# Altium footprint library OMD.PcbLib: 62 footprints (part 4 of 4)
Each footprint in its own frame and in the unit in brackets; x right, y up, seen from the top. Pads: shape width x height; smd on the part's side, far side on the other; paste and mask are expansions set on the pad; w line width, h text height; cw(c..) or ccw(c..) is an arc to the next point about the centre after c.
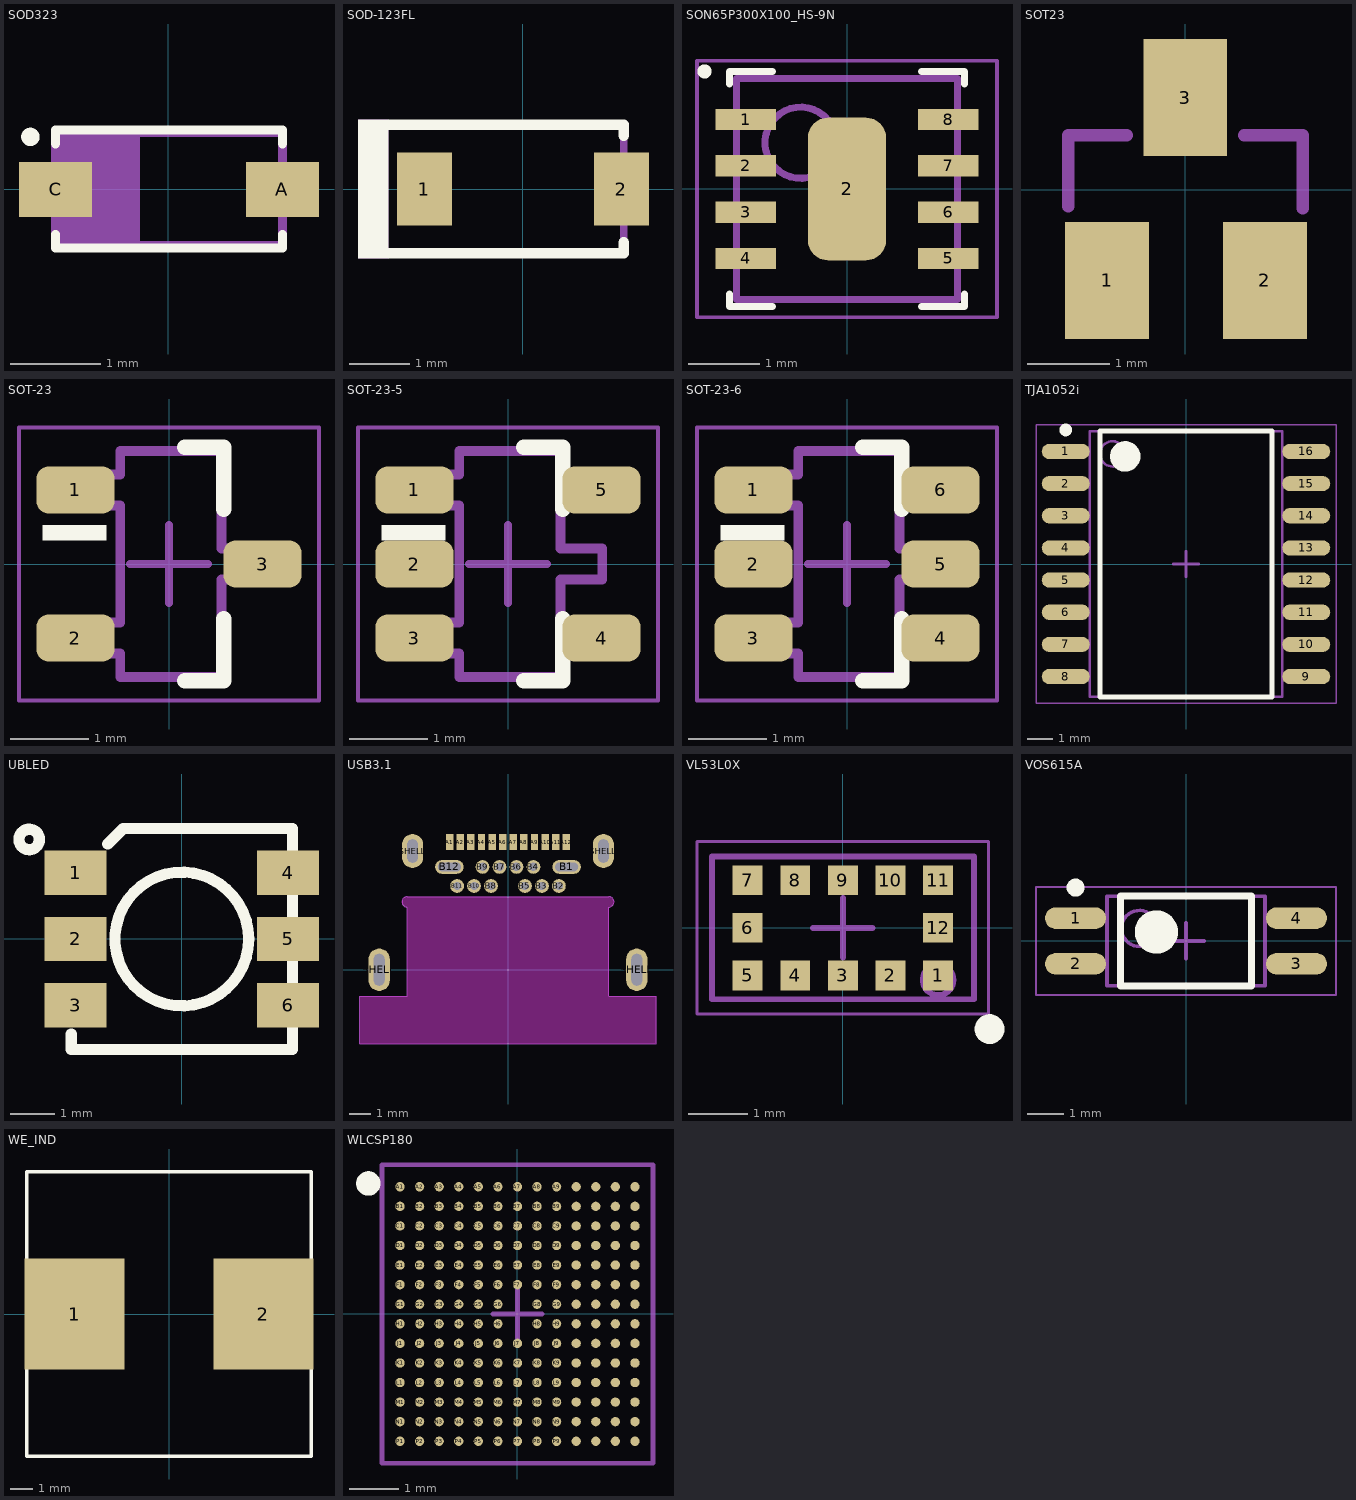
[diagram p3: the footprints below, top view; thin cyan lines are the x and y axes]

## SOD323 [mil] "SOD323"
pads (2):
  rect 32x24 smd: A(50,0) C(-49.21,0)
Top Overlay:
  circle w4: c-60.24,23 r2
  lines w4: -49.21,-19.68 -49.21,-25.59 50,-25.59 50,-19.68 ; -49.21,20 -49.21,26 50,26 50,20
Mechanical 16:
  rectangle: -49.2,-24.61 -12.29,25
  rectangle: -60.95,-7.83 -49.14,8.04
  rectangle: 52,-7.87 62,8
  lines w4: -49.21,-24.61 50,-24.61 50,25 -49.21,25 -49.21,-24.61
3D body "User Library-SOD323.step": height 35.43, standoff -3.54, extent -49.21,-24.21 49.21,25

## SOD-123FL [mm] "Copied from SOD-123"
height 0.991
pads (2):
  rect 0.915x1.22 smd: 1(-1.637,0) 2(1.637,0)
Top Overlay:
  rectangle: -2.743,-1.156 -2.235,1.156
  lines w0.178: -2.438,-1.067 1.676,-1.067 1.676,-0.889 ; -2.438,1.067 1.676,1.067 1.676,0.889
Mechanical 5:
  rectangle: -2.743,-1.156 -2.235,1.156
  lines w0.127: -2.438,-1.067 1.676,-1.067 1.676,1.067 -2.438,1.067
3D body "SOD-123FL.stp": height 1, standoff 0, extent -1.9,-0.9 1.9,0.9

## SON65P300X100_HS-9N [mm] "SON, 8-Leads, Body 3.00x3.00mm, Pitch 0.65mm, Thermal Pad 2.40x1.59mm, IPC Medium Density"
height 1
pads (9):
  rect 0.85x0.3 smd: 1(-1.42,0.975) 2(-1.42,0.325) 3(-1.42,-0.325) 4(-1.42,-0.975) 5(1.42,-0.975) 6(1.42,-0.325) 7(1.42,0.325) 8(1.42,0.975)
  rrect50% 1.1x2 smd paste-0.795: 2(0,0)
Top Overlay:
  circle w0.1: c-2,1.65 r0.05
  lines w0.1: -1.65,-1.475 -1.65,-1.65 -1.045,-1.65 ; -1.65,1.475 -1.65,1.65 -1.045,1.65 ; 1.045,-1.65 1.65,-1.65 1.65,-1.475 ; 1.045,1.65 1.65,1.65 1.65,1.475
Top Paste:
  rectangle: -0.55,0.75 -0.1,1.2
  rectangle: -0.55,0.1 -0.1,0.55
  rectangle: -0.55,-0.55 -0.1,-0.1
  rectangle: -0.55,-1.2 -0.1,-0.75
  rectangle: 0.1,0.75 0.55,1.2
  rectangle: 0.1,0.1 0.55,0.55
  rectangle: 0.1,-0.55 0.55,-0.1
  rectangle: 0.1,-1.2 0.55,-0.75
Mechanical 13:
  circle w0.1: c-0.65,0.65 r0.5
  lines w0.1: -1.55,-1.55 -1.55,1.55 1.55,1.55 1.55,-1.55 -1.55,-1.55
Mechanical 15:
  lines w0.05: -2.105,-1.8 -2.105,1.8 2.105,1.8 2.105,-1.8 -2.105,-1.8
  lines w0.1: -0.5,0 0.5,0 ; 0,-0.5 0,0.5
3D body: height 1, standoff 0, extent -1.55,-1.55 1.55,1.55

## SOT23 [mil] "SOT23"
pads (3):
  rect 40x56 smd: 1(-37.4,-43.31) 2(38,-43.31) 3(0,44)
Mechanical 16:
  rectangle: -9,28 9,51
  rectangle: 28,-51 46,-28
  rectangle: -46,-51 -28,-28
  lines w5.91: -56,-8 -56,26 -28,26 ; 28,26 56,26 56,-9
3D body "User Library-SOT23-3.step": height 51.18, standoff 0, extent -57.09,-50.12 57.09,60.12

## SOT-23 [mm] "SOT23, 3-Leads, Body 2.9x1.3mm, Pitch 0.95mm, Lead Span 2.5mm, IPC Medium Density"
height 1.1
pads (3):
  rrect50% 1x0.6 smd: 1(-1.2,0.95) 2(-1.2,-0.95) 3(1.2,0)
Top Overlay:
  rectangle: -1.625,0.3 -0.8,0.5
  lines w0.2: 0.2,-1.5 0.7,-1.5 0.7,-0.7 ; 0.2,1.5 0.7,1.5 0.7,0.7
Mechanical 5:
  lines w0.127: -1.16,-1.15 -1.16,-0.75 -0.625,-0.75 -0.625,0.75 -1.16,0.75 -1.16,1.15 -0.625,1.15 -0.625,1.45 0.675,1.45 0.675,0.2 1.21,0.2 1.21,-0.2 0.675,-0.2 0.675,-1.45 -0.625,-1.45 -0.625,-1.15 -1.16,-1.15
  text ".Designator" at -0.175,1.225 h0.64
Mechanical 15:
  lines w0.05: -1.925,-1.75 1.925,-1.75 1.925,1.75 -1.925,1.75 -1.925,-1.75
  lines w0.1: -0.5,0 0.5,0 ; 0,-0.5 0,0.5
3D body "SW3dPS-sot-3p290x130ll237h100.STEP": height 1, standoff 0, extent -1.16,-1.45 1.21,1.45

## SOT-23-5 [mm] "SOT23, 3-Leads, Body 2.9x1.3mm, Pitch 0.95mm, Lead Span 2.5mm, IPC Medium Density"
height 1.1
pads (5):
  rrect50% 1x0.6 smd: 1(-1.2,0.95) 2(-1.2,0) 3(-1.2,-0.95) 4(1.2,-0.95) 5(1.2,0.95)
Top Overlay:
  rectangle: -1.625,0.3 -0.8,0.5
  lines w0.2: 0.2,-1.5 0.7,-1.5 0.7,-0.7 ; 0.2,1.5 0.7,1.5 0.7,0.7
Mechanical 5:
  lines w0.127: -1.16,-1.15 -1.16,-0.75 -0.625,-0.75 -0.625,0.75 -1.16,0.75 -1.16,1.15 -0.625,1.15 -0.625,1.45 0.675,1.45 0.675,0.2 1.21,0.2 1.21,-0.2 0.675,-0.2 0.675,-1.45 -0.625,-1.45 -0.625,-1.15 -1.16,-1.15
Mechanical 15:
  lines w0.05: -1.925,-1.75 1.925,-1.75 1.925,1.75 -1.925,1.75 -1.925,-1.75
  lines w0.1: -0.5,0 0.5,0 ; 0,-0.5 0,0.5
3D body "SW3dPS-sot-3p290x130ll237h100.STEP": height 1, standoff 0, extent -1.16,-1.45 1.21,1.45

## SOT-23-6 [mm] "SOT23, 3-Leads, Body 2.9x1.3mm, Pitch 0.95mm, Lead Span 2.5mm, IPC Medium Density"
height 1.1
pads (6):
  rrect50% 1x0.6 smd: 1(-1.2,0.95) 2(-1.2,0) 3(-1.2,-0.95) 4(1.2,-0.95) 5(1.2,0) 6(1.2,0.95)
Top Overlay:
  rectangle: -1.625,0.3 -0.8,0.5
  lines w0.2: 0.2,-1.5 0.7,-1.5 0.7,-0.7 ; 0.2,1.5 0.7,1.5 0.7,0.7
Mechanical 5:
  lines w0.127: -1.16,-1.15 -0.625,-1.15 -0.625,-1.45 0.675,-1.45 0.675,-0.2 1.21,-0.2 1.21,0.2 0.675,0.2 0.675,1.45 -0.625,1.45 -0.625,1.15 -1.16,1.15 -1.16,0.75 -0.625,0.75 -0.625,-0.75 -1.16,-0.75 -1.16,-1.15
Mechanical 15:
  lines w0.05: -1.925,-1.75 -1.925,1.75 1.925,1.75 1.925,-1.75 -1.925,-1.75
  lines w0.1: -0.5,0 0.5,0 ; 0,-0.5 0,0.5
3D body "SW3dPS-sot-3p290x130ll237h100.STEP": height 1, standoff 0, extent -1.16,-1.45 1.21,1.45

## TJA1052i [mm] "SOP, 16-Leads, Body 10.30x7.50mm, Pitch 1.27mm, IPC Medium Density"
height 2.65
pads (16):
  oval 1.9x0.6 smd: 1(-4.75,4.445) 2(-4.75,3.175) 3(-4.75,1.905) 4(-4.75,0.635) 5(-4.75,-0.635) 6(-4.75,-1.905) 7(-4.75,-3.175) 8(-4.75,-4.445) 9(4.75,-4.445) 10(4.75,-3.175) 11(4.75,-1.905) 12(4.75,-0.635) 13(4.75,0.635) 14(4.75,1.905) 15(4.75,3.175) 16(4.75,4.445)
Top Overlay:
  circle w0.25: c-4.75,5.295 r0.125
  circle w0.6: c-2.4,4.25 r0.3
  lines w0.2: -3.4,-5.25 -3.4,5.25 3.4,5.25 3.4,-5.25 -3.4,-5.25
Mechanical 13:
  circle w0.1: c-2.9,4.35 r0.5
  lines w0.1: -3.8,-5.25 -3.8,5.25 3.8,5.25 3.8,-5.25 -3.8,-5.25
Mechanical 15:
  lines w0.05: -5.925,-5.5 -5.925,5.5 5.925,5.5 5.925,-5.5 -5.925,-5.5
  lines w0.1: -0.5,0 0.5,0 ; 0,-0.5 0,0.5
3D body "TJA1052i.step": height 2.65, standoff 0, extent -5.162,-5.25 5.162,5.25

## UBLED [mm]
height 1.7
pads (6):
  rect 1.4x1 smd: 1(-2.4,1.5) 2(-2.4,0) 3(-2.4,-1.5) 4(2.4,1.5) 5(2.4,0) 6(2.4,-1.5)
Top Overlay:
  circle w0.254: c-3.45,2.25 r0.23
  circle w0.254: c0,0 r1.512
  lines w0.254: -2.5,-2.15 -2.5,-2.5 2.5,-2.5 2.5,2.5 -1.325,2.5 -1.675,2.15
3D body "UBLED_PC5XS301V0500.STEP": height 1.5, standoff -0.1, extent -2.725,-2.605 2.675,2.636

## USB3.1 [mm] "CONNECTOR"
pads (28):
  rect 0.35x0.75 smd: A1(-2.75,6.025) A2(-2.25,6.025) A3(-1.75,6.025) A4(-1.25,6.025) A5(-0.75,6.025) A6(-0.25,6.025) A7(0.25,6.025) A8(0.75,6.025) A9(1.25,6.025) A10(1.75,6.025) A11(2.25,6.025) A12(2.75,6.025)
  oval 1.35x0.65 hole 0.4 slot 1.075 at 0 deg: B1(2.765,4.85) B12(-2.765,4.85)
  round 0.65 hole 0.4: B2(2.4,3.95) B3(1.6,3.95) B4(1.2,4.85) B5(0.8,3.95) B6(0.4,4.85) B7(-0.4,4.85) B8(-0.8,3.95) B9(-1.2,4.85) B10(-1.6,3.95) B11(-2.4,3.95)
  oval 1x2 hole 0.5 slot 1.5 at 90 deg: SHELL(-6.075,0) SHELL(6.075,0)
  oval 1x1.6 hole 0.5 slot 1.1 at 90 deg: SHELL(-4.5,5.6) SHELL(4.5,5.6)
Keep-Out Layer:
  board cut-out: -7,-3.5 -7,-1.25 -4.75,-1.25 -4.75,2.95 -4.8,2.95 -4.892,2.988 -4.962,3.058 -5,3.15 -5,3.25 -4.962,3.342 -4.892,3.412 -4.8,3.45 -4.75,3.45 4.75,3.45 4.8,3.45 4.892,3.412 4.962,3.342 5,3.25 5,3.15 4.962,3.058 4.892,2.988 4.8,2.95 4.75,2.95 4.75,-1.25 7,-1.25 7,-3.5
Mechanical 2:
  lines w0.013: -7,-3.5 7,-3.5 7,-1.25 4.75,-1.25 4.75,2.95 ccw(c4.75,3.2) 4.75,3.45 -4.75,3.45 ccw(c-4.75,3.2) -4.75,2.95 -4.75,-1.25 -7,-1.25 -7,-3.5
3D body "KS-C31-001-02-B8.stp": height 2.56, standoff -2.04, extent -6.15,-3.668 6.2,6.268

## VL53L0X [mm] "LIDAR"
height 1
pads (12):
  rect 0.5x0.5 smd: 1(1.6,-0.8) 2(0.8,-0.8) 3(0,-0.8) 4(-0.8,-0.8) 5(-1.6,-0.8) 6(-1.6,0) 7(-1.6,0.8) 8(-0.8,0.8) 9(0,0.8) 10(0.8,0.8) 11(1.6,0.8) 12(1.6,0)
Top Overlay:
  circle w0.25: c2.464,-1.702 r0.125
Mechanical 13:
  circle w0.1: c1.6,-0.875 r0.257
  lines w0.1: -2.2,-1.2 2.2,-1.2 2.2,1.2 -2.2,1.2 -2.2,-1.2
Mechanical 15:
  lines w0.05: -2.45,-1.45 2.45,-1.45 2.45,1.45 -2.45,1.45 -2.45,-1.45
  lines w0.1: -0.5,0 0.5,0 ; 0,-0.5 0,0.5
3D body "VL53L0X.STEP": height 1, standoff -0.01, extent -2.2,-1.2 2.2,1.2

## VOS615A [mm] "opto"
height 2
pads (4):
  oval 1.7x0.6 smd: 1(-3.075,0.635) 2(-3.075,-0.635) 3(3.075,-0.635) 4(3.075,0.635)
Top Overlay:
  circle w0.6: c-0.825,0.25 r0.3
  circle w0.25: c-3.075,1.485 r0.125
  lines w0.2: -1.825,-1.25 1.825,-1.25 1.825,1.25 -1.825,1.25 -1.825,-1.25
Mechanical 13:
  circle w0.1: c-1.3,0.35 r0.5
  lines w0.1: -2.2,-1.25 2.2,-1.25 2.2,1.25 -2.2,1.25 -2.2,-1.25
Mechanical 15:
  lines w0.05: -4.175,-1.5 4.175,-1.5 4.175,1.5 -4.175,1.5 -4.175,-1.5
  lines w0.1: -0.5,0 0.5,0 ; 0,-0.5 0,0.5
3D body "VOS615A.step": height 2, standoff 0, extent -3.5,-1.25 3.5,1.25

## WE_IND [mm] "FIXED IND 18UH 7.5A 22 MOHM SMD"
height 3
pads (2):
  rect 4.5x5 smd: 1(-4.25,0) 2(4.25,0)
Top Overlay:
  lines w0.17: -6.4,-6.4 6.4,-6.4 6.4,6.4 -6.4,6.4 -6.4,-6.4
3D body: height 3.01, standoff 2, extent -2.499,-0.299 -1.901,0.299
3D body: height 6.2, standoff 0, extent -6.414,-6.414 6.414,6.414

## WLCSP180 [mil] "WLCSP, 180-Leads, Body 5.54x6.09mmx0.58mm, Pitch 0.40mm"
height 23.23
pads (180):
  round 7.5 smd mask+1.57: A1(-94.49,102.36) A2(-78.74,102.36) A3(-62.99,102.36) A4(-47.24,102.36) A5(-31.5,102.36) A6(-15.75,102.36) A7(0,102.36) A8(15.75,102.36) A9(31.5,102.36) A10(47.24,102.36) A11(62.99,102.36) A12(78.74,102.36) A13(94.49,102.36) B1(-94.49,86.61) B2(-78.74,86.61) B3(-62.99,86.61) B4(-47.24,86.61) B5(-31.5,86.61) B6(-15.75,86.61) B7(0,86.61) B8(15.75,86.61) B9(31.5,86.61) B10(47.24,86.61) B11(62.99,86.61) B12(78.74,86.61) B13(94.49,86.61) C1(-94.49,70.87) C2(-78.74,70.87) C3(-62.99,70.87) C4(-47.24,70.87) C5(-31.5,70.87) C6(-15.75,70.87) C7(0,70.87) C8(15.75,70.87) C9(31.5,70.87) C10(47.24,70.87) C11(62.99,70.87) C12(78.74,70.87) C13(94.49,70.87) D1(-94.49,55.12) D2(-78.74,55.12) D3(-62.99,55.12) D4(-47.24,55.12) D5(-31.5,55.12) D6(-15.75,55.12) D7(0,55.12) D8(15.75,55.12) D9(31.5,55.12) D10(47.24,55.12) D11(62.99,55.12) D12(78.74,55.12) D13(94.49,55.12) E1(-94.49,39.37) E2(-78.74,39.37) E3(-62.99,39.37) E4(-47.24,39.37) E5(-31.5,39.37) E6(-15.75,39.37) E7(0,39.37) E8(15.75,39.37) E9(31.5,39.37) E10(47.24,39.37) E11(62.99,39.37) E12(78.74,39.37) E13(94.49,39.37) F1(-94.49,23.62) F2(-78.74,23.62) F3(-62.99,23.62) F4(-47.24,23.62) F5(-31.5,23.62) F6(-15.75,23.62) F7(0,23.62) F8(15.75,23.62) F9(31.5,23.62) F10(47.24,23.62) F11(62.99,23.62) F12(78.74,23.62) F13(94.49,23.62) G1(-94.49,7.87) G2(-78.74,7.87) G3(-62.99,7.87) G4(-47.24,7.87) G5(-31.5,7.87) G6(-15.75,7.87) G8(15.75,7.87) G9(31.5,7.87) G10(47.24,7.87) G11(62.99,7.87) G12(78.74,7.87) G13(94.49,7.87) H1(-94.49,-7.87) H2(-78.74,-7.87) H3(-62.99,-7.87) H4(-47.24,-7.87) H5(-31.5,-7.87) H6(-15.75,-7.87) H8(15.75,-7.87) H9(31.5,-7.87) H10(47.24,-7.87) H11(62.99,-7.87) H12(78.74,-7.87) H13(94.49,-7.87) J1(-94.49,-23.62) J2(-78.74,-23.62) J3(-62.99,-23.62) J4(-47.24,-23.62) J5(-31.5,-23.62) J6(-15.75,-23.62) J7(0,-23.62) J8(15.75,-23.62) J9(31.5,-23.62) J10(47.24,-23.62) J11(62.99,-23.62) J12(78.74,-23.62) J13(94.49,-23.62) K1(-94.49,-39.37) K2(-78.74,-39.37) K3(-62.99,-39.37) K4(-47.24,-39.37) K5(-31.5,-39.37) K6(-15.75,-39.37) K7(0,-39.37) K8(15.75,-39.37) K9(31.5,-39.37) K10(47.24,-39.37) K11(62.99,-39.37) K12(78.74,-39.37) K13(94.49,-39.37) L1(-94.49,-55.12) L2(-78.74,-55.12) L3(-62.99,-55.12) L4(-47.24,-55.12) L5(-31.5,-55.12) L6(-15.75,-55.12) L7(0,-55.12) L8(15.75,-55.12) L9(31.5,-55.12) L10(47.24,-55.12) L11(62.99,-55.12) L12(78.74,-55.12) L13(94.49,-55.12) M1(-94.49,-70.87) M2(-78.74,-70.87) M3(-62.99,-70.87) M4(-47.24,-70.87) M5(-31.5,-70.87) M6(-15.75,-70.87) M7(0,-70.87) M8(15.75,-70.87) M9(31.5,-70.87) M10(47.24,-70.87) M11(62.99,-70.87) M12(78.74,-70.87) M13(94.49,-70.87) N1(-94.49,-86.61) N2(-78.74,-86.61) N3(-62.99,-86.61) N4(-47.24,-86.61) N5(-31.5,-86.61) N6(-15.75,-86.61) N7(0,-86.61) N8(15.75,-86.61) N9(31.5,-86.61) N10(47.24,-86.61) N11(62.99,-86.61) N12(78.74,-86.61) N13(94.49,-86.61) P1(-94.49,-102.36) P2(-78.74,-102.36) P3(-62.99,-102.36) P4(-47.24,-102.36) P5(-31.5,-102.36) P6(-15.75,-102.36) P7(0,-102.36) P8(15.75,-102.36) P9(31.5,-102.36) P10(47.24,-102.36) P11(62.99,-102.36) P12(78.74,-102.36) P13(94.49,-102.36)
Top Overlay:
  circle w9.84: c-120,105 r4.92
Mechanical 13:
  lines w3.94: -109.06,-120.08 -109.06,120.08 109.06,120.08 109.06,-120.08 -109.06,-120.08
Mechanical 15:
  lines w1.97: -109.69,-120.67 -109.69,120.67 109.69,120.67 109.69,-120.67 -109.69,-120.67
  lines w3.94: -19.69,0 19.68,0 ; 0,-19.68 0,19.69
3D body: height 31.5, standoff 0, extent -110,-120 110,120